# EAGLE library part ADXL375 (library BBS_Library)
Accelerometer X, Y, Z Axis ±200g 0.05Hz ~ 1.6kHz 14-LGA (3x5) Digikey <https://www.digikey.com/en/products/detail/analog-devices-inc/ADXL375BCCZ-RL7/4376405>
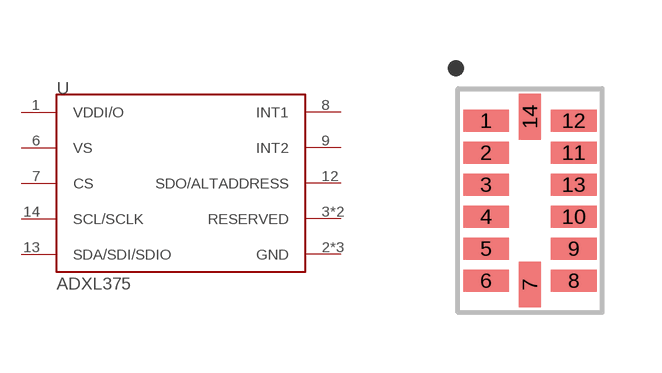
[diagram p2: symbol with the pads of 14-VFLGA; footprint 14-VFLGA]

Designator prefix U

## ADXL375 (DKPN: ADXL375BCCZ-RL7CT-ND)  [14-VFLGA]
1  VDDI/O
2  GND
3  RESERVED
4  GND
5  GND
6  VS
7  CS
8  INT1
9  INT2
11  RESERVED
12  SDO/ALTADDRESS
13  SDA/SDI/SDIO
14  SCL/SCLK

## Footprint 14-VFLGA (pad centres in mm)
smd 1.145 x 0.55: 1 -1.097,2; 2 -1.097,1.2; 3 -1.097,0.4; 4 -1.097,-0.4; 5 -1.097,-1.2; 6 -1.097,-2; 8 1.097,-2; 9 1.097,-1.2; 10 1.097,-0.4; 11 1.097,1.2; 12 1.097,2; 13 1.097,0.4
smd 0.55 x 1.145: 7 0,-2.098; 14 0,2.098